# EAGLE library part 4840388_S (library ampex)
MM-1200 AUDIO SWITCHER CARD
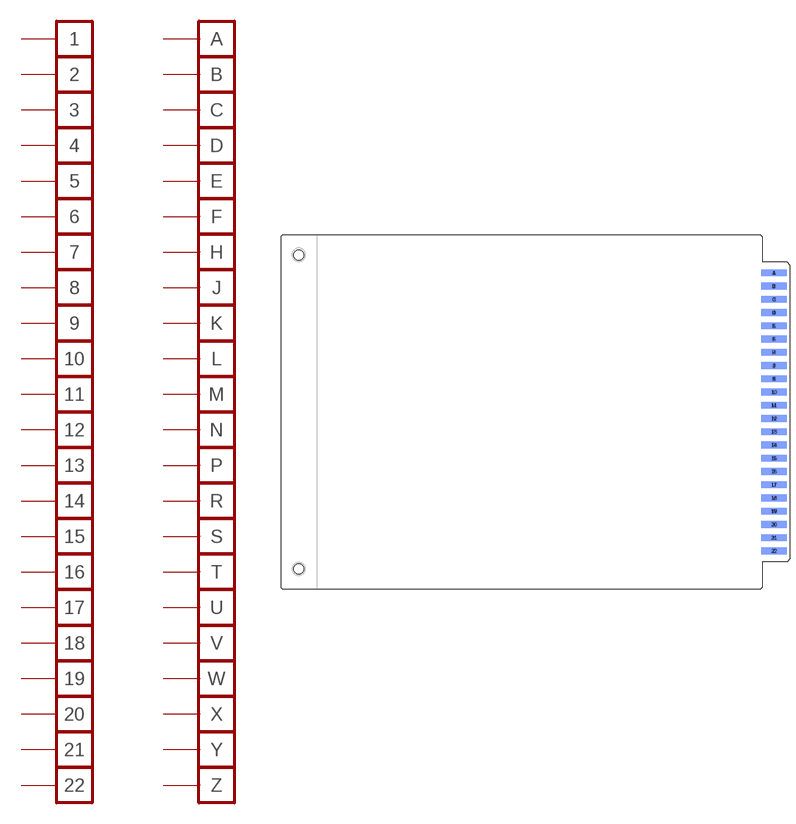
[diagram p21: symbol with the pads of 4840388; footprint 4840388]

Designator prefix PCB; gates 1=FPIN 2=FPIN 3=FPIN 4=FPIN 5=FPIN 6=FPIN 7=FPIN 8=FPIN 9=FPIN 10=FPIN 11=FPIN 12=FPIN 13=FPIN 14=FPIN 15=FPIN 16=FPIN 17=FPIN 18=FPIN 19=FPIN 20=FPIN 21=FPIN 22=FPIN A=FPIN B=FPIN C=FPIN D=FPIN E=FPIN F=FPIN H=FPIN J=FPIN K=FPIN L=FPIN M=FPIN N=FPIN P=FPIN R=FPIN S=FPIN T=FPIN U=FPIN V=FPIN W=FPIN X=FPIN Y=FPIN Z=FPIN

## 4840388_S  [4840388]
1  1:P  pas
2  2:P  pas
3  3:P  pas
4  4:P  pas
5  5:P  pas
6  6:P  pas
7  7:P  pas
8  8:P  pas
9  9:P  pas
10  10:P  pas
11  11:P  pas
12  12:P  pas
13  13:P  pas
14  14:P  pas
15  15:P  pas
16  16:P  pas
17  17:P  pas
18  18:P  pas
19  19:P  pas
20  20:P  pas
21  21:P  pas
22  22:P  pas
A  A:P  pas
B  B:P  pas
C  C:P  pas
D  D:P  pas
E  E:P  pas
F  F:P  pas
H  H:P  pas
J  J:P  pas
K  K:P  pas
L  L:P  pas
M  M:P  pas
N  N:P  pas
P  P:P  pas
R  R:P  pas
S  S:P  pas
T  T:P  pas
U  U:P  pas
V  V:P  pas
W  W:P  pas
X  X:P  pas
Y  Y:P  pas
Z  Z:P  pas

## Footprint 4840388 (pad centres in mm)
MM1200 - AUDIO SWITCHER
smd 7.62 x 2.032 bottom: 1 -4.953,41.605; 2 -4.953,37.643; 3 -4.953,33.68; 4 -4.953,29.718; 5 -4.953,25.756; 6 -4.953,21.793; 7 -4.953,17.831; 8 -4.953,13.868; 9 -4.953,9.906; 10 -4.953,5.944; 11 -4.953,1.981; 12 -4.953,-1.981; 13 -4.953,-5.944; 14 -4.953,-9.906; 15 -4.953,-13.868; 16 -4.953,-17.831; 17 -4.953,-21.793; 18 -4.953,-25.756; 19 -4.953,-29.718; 20 -4.953,-33.68; 21 -4.953,-37.643; 22 -4.953,-41.605
smd 7.62 x 2.032: A -4.953,41.605; B -4.953,37.643; C -4.953,33.68; D -4.953,29.718; E -4.953,25.756; F -4.953,21.793; H -4.953,17.831; J -4.953,13.868; K -4.953,9.906; L -4.953,5.944; M -4.953,1.981; N -4.953,-1.981; P -4.953,-5.944; R -4.953,-9.906; S -4.953,-13.868; T -4.953,-17.831; U -4.953,-21.793; V -4.953,-25.756; W -4.953,-29.718; X -4.953,-33.68; Y -4.953,-37.643; Z -4.953,-41.605
hole 2.946 at -147.104,46.99
hole 2.946 at -147.104,-46.99